# Altium footprint library SOP10P50_300X490X110L53X22N.PcbLib: 1 footprints
Each footprint in its own frame and in the unit in brackets; x right, y up, seen from the top. Pads: shape width x height; smd on the part's side, far side on the other; paste and mask are expansions set on the pad; w line width, h text height; cw(c..) or ccw(c..) is an arc to the next point about the centre after c.
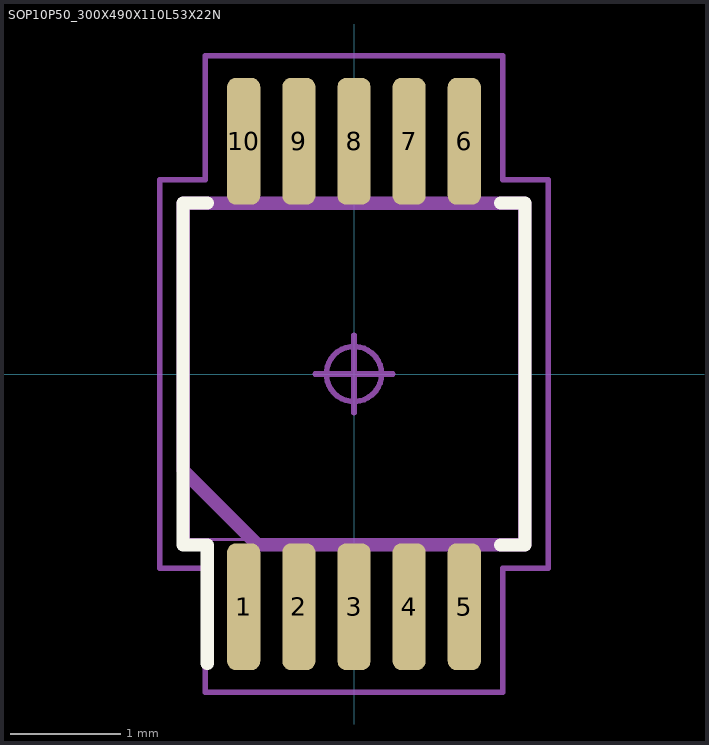
[diagram p0: the footprint, top view; thin cyan lines are the x and y axes]

## SOP10P50_300X490X110L53X22N [mm] "Small Outline Pkg (SOP), 0.50 mm pitch; 10 pin, 3.00 mm L X 3.00 mm W X 1.10 mm H body"
height 1.1
pads (10):
  rrect53% 0.3x1.15 smd: 1(-1,-2.11) 2(-0.5,-2.11) 3(0,-2.11) 4(0.5,-2.11) 5(1,-2.11) 6(1,2.11) 7(0.5,2.11) 8(0,2.11) 9(-0.5,2.11) 10(-1,2.11)
Top Overlay:
  lines w0.12: -1.33,-2.625 -1.33,-1.55 -1.55,-1.55 -1.55,1.55 -1.33,1.55 ; 1.33,-1.55 1.55,-1.55 1.55,1.55 1.33,1.55
Mechanical 3:
  lines w0.12: -1.55,-0.875 -0.875,-1.55 1.55,-1.55 1.55,1.55 -1.55,1.55 -1.55,-0.875
Mechanical 5:
  lines w0.025: -1.5,-1.5 1.5,-1.5 1.5,1.5 -1.5,1.5 -1.5,-1.5 ; -1.11,-2.45 -1.11,-1.92 -0.89,-1.92 -0.89,-2.45 -1.11,-2.45 ; -1.11,1.92 -1.11,2.45 -0.89,2.45 -0.89,1.92 -1.11,1.92 ; -0.61,-2.45 -0.61,-1.92 -0.39,-1.92 -0.39,-2.45 -0.61,-2.45 ; -0.61,1.92 -0.61,2.45 -0.39,2.45 -0.39,1.92 -0.61,1.92 ; -0.11,-2.45 -0.11,-1.92 0.11,-1.92 0.11,-2.45 -0.11,-2.45 ; -0.11,1.92 -0.11,2.45 0.11,2.45 0.11,1.92 -0.11,1.92 ; 0.39,-2.45 0.39,-1.92 0.61,-1.92 0.61,-2.45 0.39,-2.45 ; 0.39,1.92 0.39,2.45 0.61,2.45 0.61,1.92 0.39,1.92 ; 0.89,-2.45 0.89,-1.92 1.11,-1.92 1.11,-2.45 0.89,-2.45 ; 0.89,1.92 0.89,2.45 1.11,2.45 1.11,1.92 0.89,1.92
Mechanical 7:
  circle w0.05: c0,0 r0.25
  lines w0.05: -0.35,0 0.35,0 ; 0,-0.35 0,0.35 ; -1.76,-1.76 -1.35,-1.76 -1.35,-2.885 1.35,-2.885 1.35,-1.76 1.76,-1.76 1.76,1.76 1.35,1.76 1.35,2.885 -1.35,2.885 -1.35,1.76 -1.76,1.76 -1.76,-1.76
Mechanical 9:
  text "'.Designator'" at -5.18,-0.429 h1
3D body: height 1, standoff 0, extent -1.75,-2.875 1.75,2.875
3D body "SOP10P50_300X490X110L53X22.STEP": height 1.1, standoff 0, extent -1.5,-2.45 1.5,2.45
3D body: height 1.04, standoff 0, extent -1.76,-2.885 1.76,2.885